# Altium schematic symbol library CURRENT_SENS.SchLib: 1 symbol
Pins are listed as number, name and electrical type; pins without a type are passive.

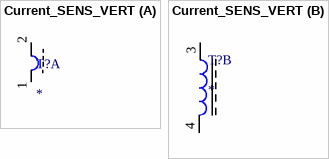
[diagram p0: symbol Current_SENS_VERT]

## Current_SENS_VERT
designator T?
footprint Current_SENS
footprint Current_Sens_Case
footprint Current_SENS_VERT
part A pins: 1 3, 2 4
part B pins: 3, 4